# Altium schematic symbol library Mach trai tim.SCHLIB: 7 symbols
Pins are listed as number, name and electrical type; pins without a type are passive.

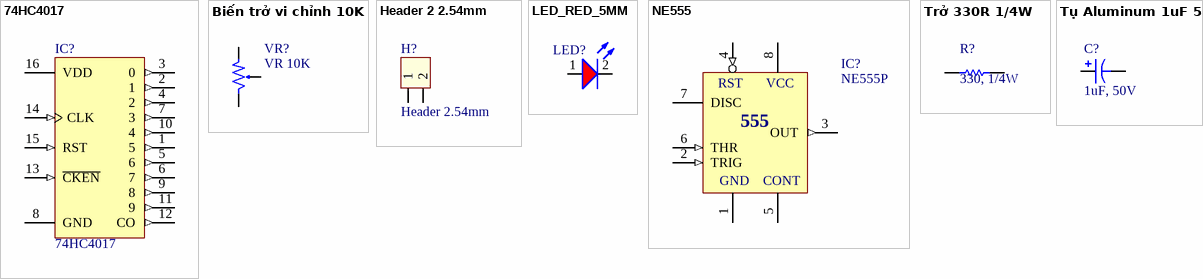
[diagram p0: symbols 74HC4017 to Tụ Aluminum 1uF 50V]

## 74HC4017
designator IC?
CD74HC4017 through hole; Manufacturer: Texas Instruments; Manufacturer Part Number: CD74HC4017E; Designed by: VanDungEvn; Logic Type: Counter, Decade; Direction: Up; Number of Bits per Element: 10; Reset: Asynchronous; Count Rate: 35MHz; Trigger Type: Positive Edge; Voltage - Supply: 2 V ~ 6 V; Cost (VNĐ): 7000; Value: 74HC4017; Supplier 1: Digi-Key; Supplier Part Number 1: 296-25989-5-ND; RoHS: RoHS Compliant; Category: Integrated Circuits (ICs); Stock 1: 1108; Pricing 1: 1=0.58, 10=0.508, 100=0.3896, 500=0.308, 1000=0.2464 (USD); Packaging: Tube; Part Status: Active; Timing: -; Operating Temperature: -55°C ~ 125°C; Mounting Type: Through Hole; Package / Case: 16-DIP (0.300", 7.62mm); Supplier Device Package: 16-PDIP; ComponentLink1URL: http://www.ti.com/lit/ds/symlink/cd74hc4017.pdf; ComponentLink1Description: http://www.ti.com/lit/ds/symlink/cd74hc4017.pdf; BuyLink: http://www.tme.vn/Product.aspx?id=1271#page=pro_info
footprint 74HC4017 (DIP 16, 16 PIN, W 7.62, Pin to pin 2.54MM)
pins: 1 5 (out), 2 1 (out), 3 0 (out), 4 2 (out), 5 6 (out), 6 7 (out), 7 3 (out), 8 GND (power), 9 8 (out), 10 4 (out), 11 9 (out), 12 CO (out), 13 ~{CKEN} (in), 14 CLK (in), 15 RST (in), 16 VDD (power)

## Biến trở vi chỉnh 10K
designator VR?, comment VR 10K
Var Resistor through hole Bulk packaging; Manufacturer: Bourns Inc.; Manufacturer Part Number: PV36W103C01B00; Cost (VNĐ): 4000; Power (Watts): 0.5W, 1/2W; Tolerance: ±10%; Temperature Coefficient: ±100ppm/°C; Number of Turns: 25; Adjustment Type: Top Adjustment; Resistive Material: Cermet; Value: VR 10K; BuyLink: http://www.tme.vn/Product.aspx?id=1496#page=pro_info; Supplier 1: Digi-Key; RoHS: RoHS Compliant; Category: Potentiometers, Variable Resistors; Stock 1: 8160; Pricing 1: 1=1.5, 10=1.32, 25=1.188, 50=1.144, 100=1.1, 250=1.034, 500=0.88, 1000=0.814, 5000=0.6688 (USD); Packaging: Bulk; Part Status: Active; Resistance (Ohms): 10k; Mounting Type: Through Hole; Termination Style: PC Pins; Size / Dimension: Rectangular - 0.378" x 0.197" Face x 0.394" H (9.60mm x 5.00mm x 10.00mm); ComponentLink1URL: http://www.bourns.com/docs/Product-Datasheets/pv36.pdf; ComponentLink1Description: http://www.bourns.com/docs/Product-Datasheets/pv36.pdf; Supplier Part Number 1: 490-2875-ND
footprint VR1 (Variable Resistor)
pins: 1, 2, 3

## Header 2 2.54mm
designator H?, comment Header 2.54mm
Header 2.54mm Through Hole; Manufacturer: TE Connectivity AMP Connectors; Manufacturer Part Number: 640456-2; Cost (VNĐ): 1500; Pitch - Mating: 0.100" (2.54mm); Shrouding: Unshrouded; Number of Positions: 2; Number of Positions Loaded: All; Contact Length - Mating: 0.295" (7.49mm); Value: Header 2.54mm; BuyLink: http://www.tme.vn/Product.aspx?id=857#page=pro_info; Supplier 1: Digi-Key; RoHS: RoHS Compliant; Category: Connectors, Interconnects; Stock 1: 127087; Pricing 1: 1=0.12, 10=0.117, 50=0.0748, 100=0.0724, 250=0.0624, 500=0.05992, 1000=0.05243, 2500=0.04744 (USD); Packaging: Bulk; Part Status: Active; Connector Type: Header; Contact Type: Male Pin; Number of Rows: 1; Row Spacing - Mating: -; Mounting Type: Through Hole; Termination: Solder; Fastening Type: Friction Lock; Contact Finish - Mating: Tin; Contact Finish Thickness - Mating: -; Features: -; Insulation Color: Natural; ComponentLink1URL: http://www.te.com/commerce/DocumentDelivery/DDEController?Action=srchrtrv&DocNm=640456&DocType=Customer+Drawing&DocLang=English; ComponentLink1Description: http://www.te.com/commerce/DocumentDelivery/DDEController?Action=srchrtrv&DocNm=640456&DocType=Customer+Drawing&DocLang=English; Supplier Part Number 1: A1921-ND
footprint CON2
pins: 1, 2

## LED_RED_5MM
designator LED?, comment RED LED 5mm  (value not drawn)
LED Red 5mm; Manufacturer: Broadcom Limited; Cost (VNĐ): 1000; Lens Transparency: Clear; Millicandela Rating: 60mcd; Lens Style/Size: Round with Domed Top, 5mm (T-1 3/4), 4.83mm; Voltage - Forward (Vf) (Typ): 1.9V; Current - Test: 10mA; Viewing Angle: 35°; Wavelength - Dominant: 626nm; Wavelength - Peak: 635nm; BuyLink: http://www.tme.vn/Product.aspx?id=1277#page=pro_info; Value: RED LED 5mm; Supplier 1: Digi-Key; Supplier Part Number 1: 516-1335-ND; Manufacturer Part Number: HLMP-3316; RoHS: RoHS Compliant; Category: Optoelectronics; Stock 1: 11943; Pricing 1: 1=0.41, 10=0.294, 25=0.24, 100=0.192, 250=0.162, 500=0.138, 1000=0.108, 2500=0.099 (USD); Packaging: Bulk; Part Status: Active; Color: Red; Lens Color: Red; Mounting Type: Through Hole; Features: -; Package / Case: Radial; Supplier Device Package: T-1 3/4; Size / Dimension: -; Height (Max): 9.19mm; ComponentLink1URL: https://docs.broadcom.com/docs/AV02-1023EN; ComponentLink1Description: https://docs.broadcom.com/docs/AV02-1023EN
footprint LED5R (LED, RED, 2 LEAD, 5mm)
pins: 1 A, 2 K

## NE555
designator IC?, comment NE555P
Timer NE555P; Manufacturer: Texas Instruments; Cost (VNĐ): 4000; Frequency: 100kHz; Voltage - Supply: 4.5 V ~ 16 V; Current - Supply: 10mA; Value: NE555P; BuyLink: http://www.tme.vn/Product.aspx?id=963#page=pro_info; Supplier 1: Digi-Key; Manufacturer Part Number: NE555P; RoHS: RoHS Compliant; Category: Integrated Circuits (ICs); Stock 1: 25606; Pricing 1: 1=0.44, 10=0.353, 100=0.24, 500=0.18, 1000=0.135 (USD); Packaging: Tube; Part Status: Active; Type: 555 Type, Timer/Oscillator (Single); Count: -; Operating Temperature: 0°C ~ 70°C; Package / Case: 8-DIP (0.300", 7.62mm); Supplier Device Package: 8-PDIP; Mounting Type: Through Hole; ComponentLink1URL: http://www.ti.com/lit/ds/symlink/ne555.pdf; ComponentLink1Description: http://www.ti.com/lit/ds/symlink/ne555.pdf; Supplier Part Number 1: 296-1411-5-ND
footprint NE555 (DIP8)
pins: 1 GND (power), 2 TRIG (in), 3 OUT (out), 4 RST (in), 5 CONT, 6 THR (in), 7 DISC (oc), 8 VCC (power)
text: 555

## Trở 330R 1/4W
designator R?, comment 330, 1/4W
CF14JT330RTR-ND 330R 1/4W; Manufacturer: Stackpole Electronics Inc.; Cost (VNĐ): 50; Resistance (Ohms): 330; Tolerance: ±5%; Power (Watts): 0.25W, 1/4W; Temperature Coefficient: 0/ -400ppm/°C; BuyLink: http://www.tme.vn/Product.aspx?id=1004#page=pro_info; Supplier 1: Digi-Key; Supplier Part Number 1: CF14JT330RTR-ND; Manufacturer Part Number: CF14JT330R; RoHS: RoHS Compliant; Category: Resistors; Stock 1: 240000; Pricing 1: 5000=0.00475, 10000=0.00413, 25000=0.00363, 50000=0.00333, 125000=0.00326 (USD); Packaging: Tape & Reel (TR); Part Status: Active; Composition: Carbon Film; Features: Flame Retardant Coating, Safety; Operating Temperature: -55°C ~ 155°C; Package / Case: Axial; Supplier Device Package: Axial; Size / Dimension: 0.091" Dia x 0.236" L (2.30mm x 6.00mm); Height - Seated (Max): -; Failure Rate: -; ComponentLink1URL: https://www.seielect.com/Catalog/SEI-CF_CFM.pdf; ComponentLink1Description: https://www.seielect.com/Catalog/SEI-CF_CFM.pdf; Value: 330, 1/4W
footprint RES 1/4W CFR25 (Axial Device, Thru-Hole; 2 Leads fi 0.55)
pins: 1, 2

## Tụ Aluminum 1uF 50V
designator C?, comment 1uF, 50V
Tụ hóa Aluminum 1uF 50V; Manufacturer: Nichicon; Manufacturer Part Number: ULD1H010MDD1TD; Cost (VNĐ): 600; Capacitance: 1µF; Tolerance: ±20%; Lifetime @ Temp.: 10000 Hrs @ 105°C; Polarization: Polar; Ripple Current - Low Frequency: 10.5mA @ 120Hz; Ripple Current - High Frequency: 25mA @ 100kHz; BuyLink: http://www.tme.vn/Product.aspx?id=1499#page=pro_info; Supplier 1: Digi-Key; Supplier Part Number 1: 493-14724-3-ND; RoHS: RoHS Compliant; Category: Capacitors; Stock 1: 2000; Pricing 1: 2000=0.05334, 4000=0.04934, 10000=0.04667, 14000=0.04427, 50000=0.04001, 100000=0.03534 (USD); Packaging: Tape & Box (TB); Part Status: Active; Voltage Rating: 50V; ESR (Equivalent Series Resistance): -; Operating Temperature: -25°C ~ 105°C; Applications: General Purpose; Impedance: -; Lead Spacing: 0.079" (2.00mm); Size / Dimension: 0.197" Dia (5.00mm); Height - Seated (Max): 0.490" (12.50mm); Surface Mount Land Size: -; Mounting Type: Through Hole; Package / Case: Radial, Can; ComponentLink1URL: http://nichicon-us.com/english/products/pdfs/e-uld.pdf; ComponentLink1Description: http://nichicon-us.com/english/products/pdfs/e-uld.pdf; Value: 1uF, 50V
footprint CAP_1UF_50V (Capacitor, Electrolytic, Radial; Body 5 x 11 mm (Dia.xH typ); Pin Spacing 2 mm (typ))
pins: 1, 2
1 alternate drawing of the same symbol